# Altium footprint library STM32Ethernet.PcbLib: 22 footprints (part 1 of 2)
Each footprint in its own frame and in the unit in brackets; x right, y up, seen from the top. Pads: shape width x height; smd on the part's side, far side on the other; paste and mask are expansions set on the pad; w line width, h text height; cw(c..) or ccw(c..) is an arc to the next point about the centre after c.
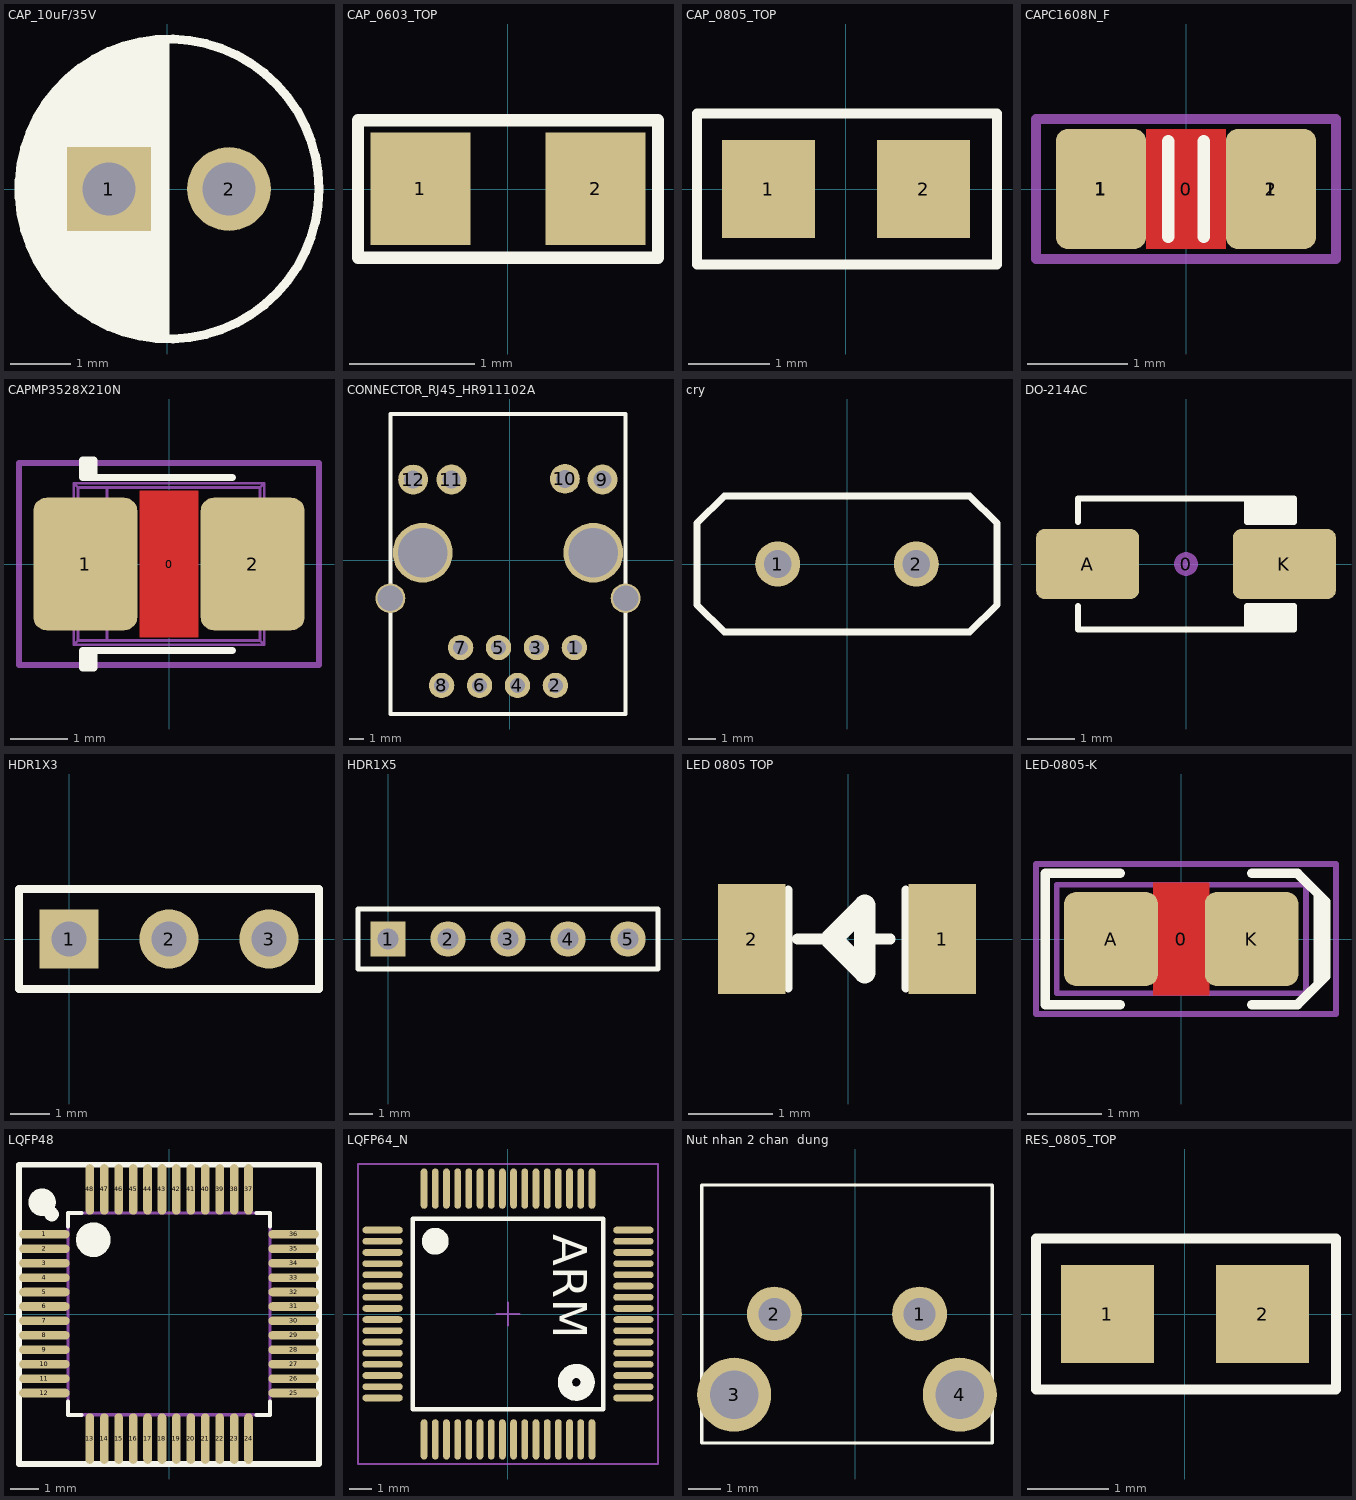
[diagram p0: the footprints below, top view; thin cyan lines are the x and y axes]

## CAP_10uF/35V [mm]
height 5.08
pads (2):
  rect 1.4x1.4 hole 0.889: 1(-0.975,0)
  round 1.397 hole 0.889: 2(1.025,0)
Top Overlay:
  circle w0.15: c0.025,0 r2.5
  pour cut-out: -1.427,0.842 -0.445,0.842 -0.445,1.824 -1.427,1.824
  pour cut-out: -1.675,-0.7 -0.275,-0.7 -0.275,0.7 -1.675,0.7
  region: -0.025,2.475 0.025,2.454 0.025,-2.5 -0.375,-2.5 -0.475,-2.4 -0.675,-2.4 -0.775,-2.3 -1.075,-2.3 -1.375,-2 -1.575,-2 -1.875,-1.7 -1.875,-1.6 -2.075,-1.4 -2.075,-1.3 -2.275,-1.1 -2.275,-0.9 -2.375,-0.8 -2.375,-0.6 -2.475,-0.5 -2.475,0.4 -2.375,0.5 -2.375,0.825 -2.225,0.975 -2.225,1.2 -2.1,1.325 -2.1,1.4 -2.075,1.4 -1.85,1.625 -1.85,1.75 -1.775,1.75 -1.575,1.95 -1.525,1.95 -1.325,2.15 -1.125,2.15 -0.925,2.35 -0.6,2.35 -0.475,2.475 hole: -0.445,1.824 -1.427,1.824 -1.427,0.842 -0.445,0.842 hole: -0.275,0.7 -1.675,0.7 -1.675,-0.7 -0.275,-0.7
  text "+" at -1.275,0.825 h1.02
3D body "CAPPD5x11.STEP": height 0.76, standoff -11.97, extent -2.576,-2.567 2.63,2.577

## CAP_0603_TOP [mm]
pads (2):
  rect 0.8x0.9 smd: 1(-0.7,0) 2(0.7,0)
Top Overlay:
  lines w0.1: -1.2,-0.55 -1.2,0.55 1.2,0.55 1.2,-0.55 -1.2,-0.55
3D body "0603 CAP Panasonic.step": height 0.7, standoff 0, extent -0.8,-0.4 0.8,0.4

## CAP_0805_TOP [mm]
pads (2):
  rect 1.14x1.2 smd: 1(-0.95,0) 2(0.95,0)
Top Overlay:
  lines w0.127: -1.825,-0.925 1.85,-0.925 1.85,0.925 -1.825,0.925 -1.825,-0.925
3D body "CAP 0805.step": height 0.8, standoff 0.02, extent -1,-0.624 1,0.625

## CAPC1608N_F [mm] "Chip Capacitor, Body 1.6x0.8mm, 0603, IPC Medium Density, for Flex circuits"
height 0.8
pads (7):
  round 0.254 on Mech14: 0(0,0)
  rrect50% 1.1x1 on Top Solder: 1(-0.85,0) 1(0.85,0)
  rrect25% 0.9x1.2 smd paste-1: 1(-0.85,0) 2(0.85,0)
  rrect50% 0.9x1 on Top Paste: 1(-0.85,0) 1(0.85,0)
Top Layer:
  pour cut-out: -0.4,0.6 0.4,0.6 0.4,-0.6 -0.4,-0.6
Top Overlay:
  lines w0.127: -0.178,-0.476 -0.178,0.476 ; 0.178,-0.476 0.178,0.476
Mechanical 13:
  lines w0.05: -0.55,-0.43 0.55,-0.43 ; -0.55,0.43 0.55,0.43 ; -0.85,-0.45 -0.85,0.45 -0.55,0.45 -0.55,-0.45 -0.85,-0.45 ; 0.55,-0.45 0.55,0.45 0.85,0.45 0.85,-0.45 0.55,-0.45
Mechanical 14:
  lines w0.1: -1.5,-0.7 -1.5,0.7 1.5,0.7 1.5,-0.7 -1.5,-0.7
3D body "CAP_0603.STEP": height 0.89, standoff -0.01, extent -0.85,-0.45 0.85,0.45

## CAPMP3528X210N [mm] "Molded body capacitor, Body 3.5x2.8mm, 1210, IPC Nominal settings"
height 2.1
pads (3):
  round 0.254 on Mech14: 0(0,0)
  rrect25% 1.8x2.3 smd: 1(-1.45,0) 2(1.45,0)
Top Layer:
  pour cut-out: -0.508,1.27 0.508,1.27 0.508,-1.27 -0.508,-1.27
Top Overlay:
  lines w0.127: -1.4,-1.8 -1.4,-1.5 ; -1.4,1.5 -1.4,1.8 ; -1.3,-1.5 -1.3,-1.8 -1.5,-1.8 -1.5,-1.5 1.1,-1.5 ; -1.3,1.5 -1.3,1.8 -1.5,1.8 -1.5,1.5 1.1,1.5
Mechanical 13:
  lines w0.05: -1.75,-0.55 -1.65,-0.55 ; -1.75,0.55 -1.65,0.55 ; -1.65,-1.1 -1.75,-1.1 -1.75,1.1 -1.65,1.1 ; -1.077,-1.327 -1.077,1.327 ; 1.65,-1.1 1.75,-1.1 1.75,1.1 1.65,1.1 ; 1.65,-0.55 1.75,-0.55 ; 1.65,0.55 1.75,0.55 ; -1.65,-1.4 -1.577,-1.327 ; -1.65,-1.4 -1.65,1.4 ; -1.65,-1.4 1.65,-1.4 ; -1.65,1.4 -1.577,1.327 ; -1.65,1.4 1.65,1.4 ; -1.577,-1.327 -1.577,1.327 ; -1.577,-1.327 1.577,-1.327 ; -1.577,1.327 1.577,1.327 ; 1.577,-1.327 1.577,1.327 ; 1.577,-1.327 1.65,-1.4 ; 1.577,1.327 1.65,1.4 ; 1.65,-1.4 1.65,1.4
Mechanical 14:
  lines w0.1: -2.6,-1.75 -2.6,1.75 2.6,1.75 2.6,-1.75 -2.6,-1.75
3D body "CAPMP3528X210N.STEP": height 2.1, standoff 0, extent -1.75,-1.4 1.75,1.4

## CONNECTOR_RJ45_HR911102A [mm] "Single Port RJ45 Connector with Integrated Magnetics and LED"
pads (16):
  round 1.7 hole 1: 1(4.317,-5.837) 2(3.047,-8.377) 3(1.777,-5.837) 4(0.507,-8.377) 5(-0.763,-5.837) 6(-2.033,-8.377) 7(-3.303,-5.837) 8(-4.573,-8.377)
  round 2 hole 1.2: 9(6.197,5.413) 10(3.683,5.461) 11(-3.913,5.413) 12(-6.477,5.41)
  round 2 hole 1.7: ""(-8.003,-2.537) ""(7.747,-2.537)
  round 4 hole 3.3: ""(-5.843,0.513) ""(5.587,0.513)
Top Overlay:
  lines w0.254: -8.003,-10.287 -8.003,9.8 7.747,9.8 7.747,-10.287 -8.003,-10.287
3D body "User Library-HR911105A.step": height 13.51, standoff -2.99, extent -8.001,-9.97 7.879,11.43

## cry [mil]
height 200
pads (2):
  round 65 hole 40: 1(-100,0) 2(100,0)
Top Overlay:
  lines w10: -216.54,-59.06 -216.54,59.06 -177.17,98.43 177.17,98.43 216.54,59.06 216.54,-59.06 177.17,-98.43 -177.17,-98.43 -216.54,-59.06
3D body "CRYSTAL.step": height 145.67, standoff -149.61, extent -223.43,-93.07 223.43,90

## DO-214AC [mm] "JEDEC DO214 variation AC. SMA"
height 2.5
pads (3):
  round 0.508 on Mech14: 0(0,0)
  rrect25% 2.2x1.5 smd: A(-2.1,0) K(2.1,0)
Top Overlay:
  rectangle: 1.3,0.9 2.3,1.4
  rectangle: 1.3,-1.4 2.3,-0.9
  lines w0.127: -2.3,-0.9 -2.3,-1.4 2.3,-1.4 2.3,-0.9 1.3,-0.9 1.3,-1.4 ; -2.3,0.9 -2.3,1.4 2.3,1.4 2.3,0.9 1.3,0.9 ; 1.3,0.911 1.3,1.4
3D body "SW3dPS-DO-214AC SMA.STEP": height 2.42, standoff 0.02, extent -2.6,-1.3 2.6,1.3

## HDR1X3 [mm] "Connector; Header; 3 Position"
pads (3):
  rect 1.5x1.5 hole 0.9: 1(0,0)
  round 1.5 hole 0.9: 2(2.54,0) 3(5.08,0)
Top Overlay:
  lines w0.2: -1.27,-1.27 -1.27,1.27 ; -1.27,-1.27 6.35,-1.27 6.35,1.27 -1.27,1.27 ; -1.27,-1.27 -1.27,1.27
3D body: height 1.5, standoff 0, extent -1.27,-1.27 1.27,1.27
3D body: height 7, standoff -1, extent -0.406,-0.406 0.39,0.392
3D body: height 1.5, standoff 0, extent 1.27,-1.27 3.81,1.27
3D body: height 7, standoff -1, extent 2.134,-0.406 2.93,0.392
3D body: height 1.5, standoff 0, extent 3.81,-1.27 6.35,1.27
3D body: height 7, standoff -1, extent 4.674,-0.406 5.47,0.392

## HDR1X5 [mm] "Connector; Header; 5 Position"
pads (5):
  rect 1.5x1.5 hole 0.9: 1(0,0)
  round 1.5 hole 0.9: 2(2.54,0) 3(5.08,0) 4(7.62,0) 5(10.16,0)
Top Overlay:
  lines w0.2: -1.27,-1.27 -1.27,1.27 11.43,1.27 11.43,-1.27 -1.27,-1.27

## LED 0805 TOP [mm]
height 5.08
pads (2):
  rect 0.8x1.3 smd: 1(1.118,0) 2(-1.143,0)
Top Overlay:
  lines w0.1: -0.711,-0.584 -0.711,0.584 ; 0.686,-0.584 0.686,0.584
  lines w0.127: -0.6,0 -0.2,0 ; 0.2,0 0.5,0
  lines w0.254: -0.2,0 0.2,-0.4 0.2,0.4 -0.2,0
3D body "led_0805.step": height 1.1, standoff 0, extent -1.01,-0.625 1.01,0.625

## LED-0805-K [mil]
height 31.5
pads (3):
  round 20 on Mech14: 0(0,0)
  rrect25% 50x50 smd: A(-37.5,0) K(37.5,0)
Top Layer:
  pour cut-out: -15,30 15,30 15,-30 -15,-30
Top Overlay:
  lines w5: -32.5,-35 -72.5,-35 -72.5,35 -32.5,35 ; 37.5,-35 62,-35 77,-20 77,20 62,35 37.5,35 ; 73,-24 73,24
Mechanical 13:
  lines w3: -66.5,-29 -66.5,29 66.5,29 66.5,-29 -66.5,-29
Mechanical 14:
  lines w3: -77.5,-40 -77.5,40 82.5,40 82.5,-40 -77.5,-40
3D body: height 3.94, standoff 0, extent -11.81,-15.75 11.81,15.75
3D body: height 3.94, standoff 0, extent -39.37,-24.61 39.37,24.61
3D body: height 11.81, standoff 3.94, extent -39.37,-24.61 39.37,24.61
3D body: height 31.5, standoff 11.81, extent -28.65,-24.6 26.49,24.61

## LQFP48 [mm] "Thin QFP, 48-Leads, Body 7x7mm, Pitch 0.5mm, IPC Medium Density"
height 1.6
pads (48):
  oval 1.75x0.3 smd paste-0.102 mask+0.051: 1(-4.318,2.761) 2(-4.318,2.261) 3(-4.318,1.761) 4(-4.318,1.261) 5(-4.318,0.761) 6(-4.318,0.261) 7(-4.318,-0.239) 8(-4.318,-0.739) 9(-4.318,-1.239) 10(-4.318,-1.739) 11(-4.318,-2.239) 12(-4.318,-2.739) 25(4.318,-2.739) 26(4.318,-2.239) 27(4.318,-1.739) 28(4.318,-1.239) 29(4.318,-0.739) 30(4.318,-0.239) 31(4.318,0.261) 32(4.318,0.761) 33(4.318,1.261) 34(4.318,1.761) 35(4.318,2.261) 36(4.318,2.761)
  oval 0.3x1.75 smd paste-0.102 mask+0.051: 13(-2.743,-4.318) 14(-2.243,-4.318) 15(-1.743,-4.318) 16(-1.243,-4.318) 17(-0.743,-4.318) 18(-0.243,-4.318) 19(0.257,-4.318) 20(0.757,-4.318) 21(1.257,-4.318) 22(1.757,-4.318) 23(2.257,-4.318) 24(2.757,-4.318) 37(2.757,4.318) 38(2.257,4.318) 39(1.757,4.318) 40(1.257,4.318) 41(0.757,4.318) 42(0.257,4.318) 43(-0.243,4.318) 44(-0.743,4.318) 45(-1.243,4.318) 46(-1.743,4.318) 47(-2.243,4.318) 48(-2.743,4.318)
Top Overlay:
  circle w0.6: c-2.625,2.575 r0.3
  circle w0.5: c-4.4,3.875 r0.226
  circle w0.25: c-4.068,3.461 r0.125
  lines w0.127: -3.5,-3.025 -3.5,-3.5 -3.025,-3.5 ; -3.5,3.025 -3.5,3.5 -3.025,3.5 ; 3.025,-3.5 3.5,-3.5 3.5,-3.025 ; 3.025,3.5 3.5,3.5 3.5,3.025
  lines w0.2: -5.2,-5.2 5.2,-5.2 5.2,5.175 -5.2,5.175 -5.2,-5.2
Mechanical 1:
  circle w0.1: c-2.543,2.561 r0.25
  lines w0.1: -3.493,-3.489 -3.493,3.511 3.507,3.511 3.507,-3.489 -3.493,-3.489
Mechanical 13:
  circle w0.1: c-2.6,2.6 r0.5
  lines w0.1: -3.5,-3.5 3.5,-3.5 3.5,3.5 -3.5,3.5 -3.5,-3.5
Mechanical 15:
  lines w0.1: -5.2,-5.2 5.2,-5.2 5.2,5.2 -5.2,5.2 -5.2,-5.2
3D body "LQFP48.step": height 1.5, standoff 0, extent -4.5,-4.5 4.5,4.5

## LQFP64_N [mm] "Thin QFP, 64-Leads, Body 10x10mm, Pitch 0.5mm, IPC Medium Density"
height 1.6
pads (64):
  oval 1.8x0.3 smd: 1(-5.6,3.75) 2(-5.6,3.25) 3(-5.6,2.75) 4(-5.6,2.25) 5(-5.6,1.75) 6(-5.6,1.25) 7(-5.6,0.75) 8(-5.6,0.25) 9(-5.6,-0.25) 10(-5.6,-0.75) 11(-5.6,-1.25) 12(-5.6,-1.75) 13(-5.6,-2.25) 14(-5.6,-2.75) 15(-5.6,-3.25) 16(-5.6,-3.75) 33(5.6,-3.75) 34(5.6,-3.25) 35(5.6,-2.75) 36(5.6,-2.25) 37(5.6,-1.75) 38(5.6,-1.25) 39(5.6,-0.75) 40(5.6,-0.25) 41(5.6,0.25) 42(5.6,0.75) 43(5.6,1.25) 44(5.6,1.75) 45(5.6,2.25) 46(5.6,2.75) 47(5.6,3.25) 48(5.6,3.75)
  oval 0.3x1.8 smd: 17(-3.75,-5.6) 18(-3.25,-5.6) 19(-2.75,-5.6) 20(-2.25,-5.6) 21(-1.75,-5.6) 22(-1.25,-5.6) 23(-0.75,-5.6) 24(-0.25,-5.6) 25(0.25,-5.6) 26(0.75,-5.6) 27(1.25,-5.6) 28(1.75,-5.6) 29(2.25,-5.6) 30(2.75,-5.6) 31(3.25,-5.6) 32(3.75,-5.6) 49(3.75,5.6) 50(3.25,5.6) 51(2.75,5.6) 52(2.25,5.6) 53(1.75,5.6) 54(1.25,5.6) 55(0.75,5.6) 56(0.25,5.6) 57(-0.25,5.6) 58(-0.75,5.6) 59(-1.25,5.6) 60(-1.75,5.6) 61(-2.25,5.6) 62(-2.75,5.6) 63(-3.25,5.6) 64(-3.75,5.6)
Top Overlay:
  circle w0.635: c3.049,-3.049 r0.509
  circle w0.6: c-3.25,3.25 r0.3
  lines w0.2: -4.25,-4.25 4.25,-4.25 4.25,4.25 -4.25,4.25 -4.25,-4.25
  text "ARM" at 2.032,3.556 h1.52
Mechanical 15:
  lines w0.1: -0.5,0 0.5,0 ; 0,-0.5 0,0.5 ; -6.7,-6.7 6.7,-6.7 6.7,6.7 -6.7,6.7 -6.7,-6.7
3D body "User Library-LQFP64-0_5.step": height 1.58, standoff 0.01, extent -5.886,-5.886 5.886,5.886

## Nut nhan 2 chan  dung [mm]
height 5.08
pads (4):
  round 1.7 hole 1: 1(2,0) 2(-2.5,0)
  round 2.3 hole 1.5: 3(-3.75,-2.5) 4(3.25,-2.5)
Top Overlay:
  lines w0.102: -4.75,-4 4.25,-4 4.25,4 -4.75,4 -4.75,3.5 -4.75,-4
3D body "nut bam dung.stp": height 7.8, standoff -3.2, extent -4.554,-3.95 4.054,3.9

## RES_0805_TOP [mm]
pads (2):
  rect 1.14x1.2 smd: 1(-0.95,0) 2(0.95,0)
Top Overlay:
  lines w0.127: -1.825,-0.925 -1.825,0.925 1.85,0.925 1.85,-0.925 -1.825,-0.925
3D body "res0805-1.step": height 0.5, standoff 0, extent -1,-0.625 1,0.625